# EAGLE library part TFM-120-02-X-DH (library TFM-120-02-X-DH)
0.050" DOUBLE HORIZONTAL TERMINAL STRIP.
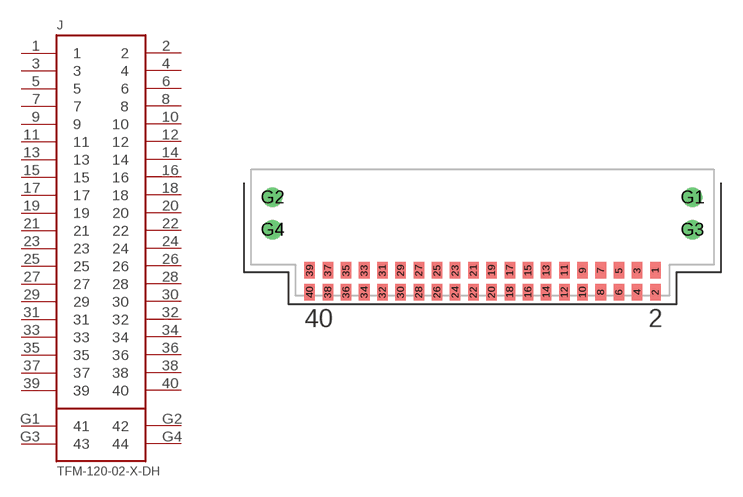
[diagram p0: symbol with the pads of TFM-120-02-X-DH; footprint TFM-120-02-X-DH]

Designator prefix J

## TFM-120-02-X-DH (Description: Connector, Header, 40 Position, 2row, 1.27mm; Digi-Key_Part_Number: SAM10153-ND; Digi-Key_Purchase_URL: https://www.digikey.com/product-detail/en/samtec-inc/TFM-120-02-L-DH/SAM10153-ND/6678890?utm_source=snapeda&utm_medium=aggregator&utm_campaign=symbol; MF: Samtec; MP: TFM-120-02-L-DH; Package: None)  [TFM-120-02-X-DH]
1  1
2  2
3  3
4  4
5  5
6  6
7  7
8  8
9  9
10  10
11  11
12  12
13  13
14  14
15  15
16  16
17  17
18  18
19  19
20  20
21  21
22  22
23  23
24  24
25  25
26  26
27  27
28  28
29  29
30  30
31  31
32  32
33  33
34  34
35  35
36  36
37  37
38  38
39  39
40  40
G1  41
G2  42
G3  43
G4  44

## Footprint TFM-120-02-X-DH (pad centres in mm)
0.050" DOUBLE HORIZONTAL TERMINAL STRIP.
smd 0.737 x 1.143: 1 12.065,-6.579; 2 12.065,-8.103; 3 10.795,-6.579; 4 10.795,-8.103; 5 9.525,-6.579; 6 9.525,-8.103; 7 8.255,-6.579; 8 8.255,-8.103; 9 6.985,-6.579; 10 6.985,-8.103; 11 5.715,-6.579; 12 5.715,-8.103; 13 4.445,-6.579; 14 4.445,-8.103; 15 3.175,-6.579; 16 3.175,-8.103; 17 1.905,-6.579; 18 1.905,-8.103; 19 0.635,-6.579; 20 0.635,-8.103; 21 -0.635,-6.579; 22 -0.635,-8.103; 23 -1.905,-6.579; 24 -1.905,-8.103; 25 -3.175,-6.579; 26 -3.175,-8.103; 27 -4.445,-6.579; 28 -4.445,-8.103; 29 -5.715,-6.579; 30 -5.715,-8.103; 31 -6.985,-6.579; 32 -6.985,-8.103; 33 -8.255,-6.579; 34 -8.255,-8.103; 35 -9.525,-6.579; 36 -9.525,-8.103; 37 -10.795,-6.579; 38 -10.795,-8.103; 39 -12.065,-6.579; 40 -12.065,-8.103
drill 0.838 pad 1.27: G1 14.656,-1.473; G2 -14.656,-1.473; G3 14.656,-3.734; G4 -14.656,-3.734